# Altium schematic symbol library GY-30.SchLib: 2 symbols
Pins are listed as number, name and electrical type; pins without a type are passive.

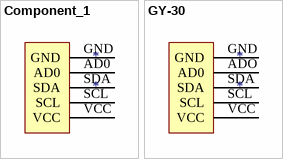
[diagram p0: symbols Component_1 to GY-30]

## Component_1
designator *
pins: AD0, GND, SCL, SDA, VCC

## GY-30
designator *
pins: ADO AD0, GND, SCL, SDA, VCC